# Altium schematic symbol library Schlib3.SchLib: 3 symbols
Pins are listed as number, name and electrical type; pins without a type are passive.

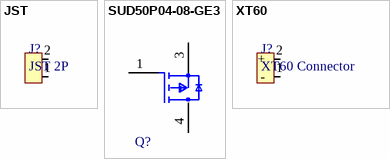
[diagram p0: symbols JST to XT60]

## JST
designator J?, comment JST 2P
footprint JST_Horizontal
pins: 1, 2

## SUD50P04-08-GE3
designator Q?  (value not drawn)
pins: 1 G, 3 S, 4 D

## XT60
designator J?, comment XT60 Connector
footprint XT60_H
pins: 1 -, 2 +